# Altium schematic symbol library PinHeader1x8.SchLib: 1 symbol
Pins are listed as number, name and electrical type; pins without a type are passive.

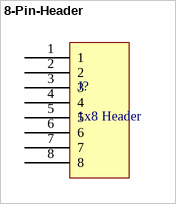
[diagram p0: symbol 8-Pin-Header]

## 8-Pin-Header
designator J?, comment 1x8 Header
Manufacturer Part Number: SSQ-108-03-T-S
footprint PCBComponent_2
pins: 1, 2, 3, 4, 5, 6, 7, 8